# Altium schematic symbol library TPS7B8333QDCYRQ1.SchLib: 1 symbol
Pins are listed as number, name and electrical type; pins without a type are passive.

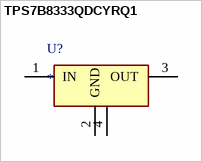
[diagram p0: symbol TPS7B8333QDCYRQ1]

## TPS7B8333QDCYRQ1
designator U?
Reguladores de voltaje LDO Automotive 150-mA, 40-V, low-dropout (LDO) linear regulator with fast transient response 4-SOT-223 -40 to 125; Datasheet: https://www.ti.com/lit/ds/symlink/tps7b83-q1.pdf?ts=1632833253952&ref_url=https%253A%252F%252Fwww.ti.com%252Fproduct%252FTPS7B83-Q1
footprint TPS7B8333QDCYRQ1
pins: 1 IN, 2 GND, 3 OUT, 4 GND_2